# Altium schematic symbol library Connector_Audio.SchLib: 233 symbols (part 3 of 3)
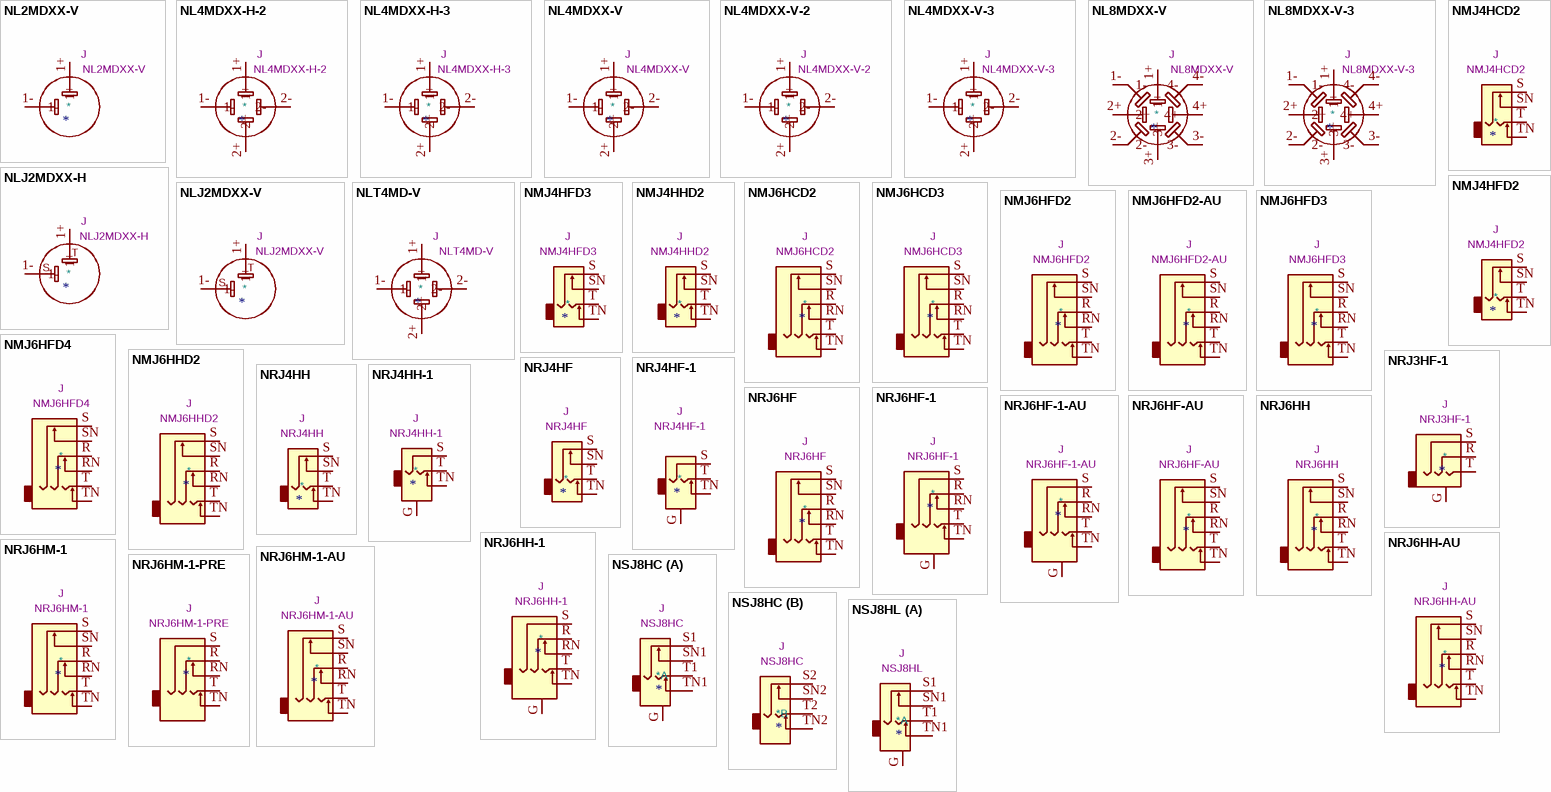
[diagram p9: symbols NL2MDXX-V to NSJ8HL]

## NMJ6HFD2-AU
designator *  value NMJ6HFD2-AU  Reference: J
M Series, 6.35mm (1/4in) stereo jack, switched, full threaded nose, straight PCB pins, gold plated contacts; ki_keywords: audio jack receptacle stereo headphones connector neutrik; ki_fp_filters: Jack*; Footprint: Connector_Audio:Jack_6.35mm_Neutrik_NMJ6HFD2-AU_Horizontal; Datasheet: https://www.neutrik.com/en/product/nmj6hfd2-au; Description_: M Series, 6.35mm (1/4in) stereo jack, switched, full threaded nose, straight PCB pins, gold plated contacts
pins: R, RN, S, SN, T, TN

## NMJ6HFD3
designator *  value NMJ6HFD3  Reference: J
M Series, 6.35mm (1/4in) stereo jack, switched, with full threaded nose and offset PCB pins; ki_keywords: audio jack receptacle stereo headphones connector neutrik; ki_fp_filters: Jack*; Footprint: Connector_Audio:Jack_6.35mm_Neutrik_NMJ6HFD3_Horizontal; Datasheet: https://www.neutrik.com/en/product/nmj6hfd3; Description_: M Series, 6.35mm (1/4in) stereo jack, switched, with full threaded nose and offset PCB pins
pins: R, RN, S, SN, T, TN

## NMJ6HFD4
designator *  value NMJ6HFD4  Reference: J
Obsolete: M Series, 6.35mm (1/4in) stereo jack, switched, with full threaded nose and fishtail PCB pins; ki_keywords: audio jack receptacle stereo headphones connector neutrik; ki_fp_filters: Jack*; Footprint: Connector_Audio:Jack_6.35mm_Neutrik_NMJ6HFD4_Horizontal; Datasheet: https://www.neutrik.com/en/product/nmj6hfd4; Description_: Obsolete: M Series, 6.35mm (1/4in) stereo jack, switched, with full threaded nose and fishtail PCB pins
pins: R, RN, S, SN, T, TN

## NMJ6HHD2
designator *  value NMJ6HHD2  Reference: J
M Series, 6.35mm (1/4in) stereo jack, switched, with half threaded nose and offset PCB pins; ki_keywords: audio jack receptacle stereo headphones connector neutrik; ki_fp_filters: Jack*; Footprint: Connector_Audio:Jack_6.35mm_Neutrik_NMJ6HHD2_Horizontal; Datasheet: https://www.neutrik.com/en/product/nmj6hhd2; Description_: M Series, 6.35mm (1/4in) stereo jack, switched, with half threaded nose and offset PCB pins
pins: R, RN, S, SN, T, TN

## NRJ3HF-1
designator *  value NRJ3HF-1  Reference: J
Slim Jacks, 6.35mm (1/4in) stereo jack, unswitched, fully threaded nose, sleeve contact/front panel connection; ki_keywords: audio jack receptacle stereo headphones phones TRS connector neutrik; ki_fp_filters: Jack*; Footprint: Connector_Audio:Jack_6.35mm_Neutrik_NRJ3HF-1_Horizontal; Datasheet: https://www.neutrik.com/en/product/nrj3hf-1; Description_: Slim Jacks, 6.35mm (1/4in) stereo jack, unswitched, fully threaded nose, sleeve contact/front panel connection
pins: G, R, S, T

## NRJ4HF
designator *  value NRJ4HF  Reference: J
Slim Jacks, 6.35mm (1/4in) mono jack, switched, fully threaded nose; ki_keywords: audio jack dual receptacle mono headphones phone TS connector neutrik; ki_fp_filters: Jack*; Footprint: Connector_Audio:Jack_6.35mm_Neutrik_NRJ4HF_Horizontal; Datasheet: https://www.neutrik.com/en/product/nrj4hf; Description_: Slim Jacks, 6.35mm (1/4in) mono jack, switched, fully threaded nose
pins: S, SN, T, TN

## NRJ4HF-1
designator *  value NRJ4HF-1  Reference: J
Slim Jacks, 6.35mm (1/4in) mono jack, switched, fully threaded nose, sleeve contact/front panel connection; ki_keywords: audio jack receptacle stereo headphones phones TRS connector neutrik; ki_fp_filters: Jack*; Footprint: Connector_Audio:Jack_6.35mm_Neutrik_NRJ4HF-1_Horizontal; Datasheet: https://www.neutrik.com/en/product/nrj4hf-1; Description_: Slim Jacks, 6.35mm (1/4in) mono jack, switched, fully threaded nose, sleeve contact/front panel connection
pins: G, S, T, TN

## NRJ4HH
designator *  value NRJ4HH  Reference: J
Slim Jacks, 6.35mm (1/4in) mono jack, switched, half threaded nose; ki_keywords: audio jack receptacle mono headphones phone TS connector neutrik; ki_fp_filters: Jack*; Footprint: Connector_Audio:Jack_6.35mm_Neutrik_NRJ4HH_Horizontal; Datasheet: https://www.neutrik.com/en/product/nrj4hh; Description_: Slim Jacks, 6.35mm (1/4in) mono jack, switched, half threaded nose
pins: S, SN, T, TN

## NRJ4HH-1
designator *  value NRJ4HH-1  Reference: J
Slim Jacks, 6.35mm (1/4in) mono jack, switched, half threaded nose, sleeve contact/front panel connection; ki_keywords: audio jack receptacle mono headphones phone TS connector neutrik; ki_fp_filters: Jack*; Footprint: Connector_Audio:Jack_6.35mm_Neutrik_NRJ4HH-1_Horizontal; Datasheet: https://www.neutrik.com/en/product/nrj4hh-1; Description_: Slim Jacks, 6.35mm (1/4in) mono jack, switched, half threaded nose, sleeve contact/front panel connection
pins: G, S, T, TN

## NRJ6HF
designator *  value NRJ6HF  Reference: J
Slim Jacks, 6.35mm (1/4in) stereo jack, switched, fully threaded nose; ki_keywords: audio jack receptacle stereo headphones connector neutrik; ki_fp_filters: Jack*; Footprint: Connector_Audio:Jack_6.35mm_Neutrik_NRJ6HF_Horizontal; Datasheet: https://www.neutrik.com/en/product/nrj6hf; Description_: Slim Jacks, 6.35mm (1/4in) stereo jack, switched, fully threaded nose
pins: R, RN, S, SN, T, TN

## NRJ6HF-1
designator *  value NRJ6HF-1  Reference: J
Slim Jacks, 6.35mm (1/4in) stereo jack, switched, fully threaded nose, sleeve contact/front panel connection; ki_keywords: audio jack receptacle stereo headphones phones TRS connector neutrik; ki_fp_filters: Jack*; Footprint: Connector_Audio:Jack_6.35mm_Neutrik_NRJ6HF-1_Horizontal; Datasheet: https://www.neutrik.com/en/product/nrj6hf-1; Description_: Slim Jacks, 6.35mm (1/4in) stereo jack, switched, fully threaded nose, sleeve contact/front panel connection
pins: G, R, RN, S, T, TN

## NRJ6HF-1-AU
designator *  value NRJ6HF-1-AU  Reference: J
Slim Jacks, 6.35mm (1/4in) stereo jack, switched, gold plated contacts, fully threaded nose, sleeve contact/front panel connection; ki_keywords: audio jack receptacle stereo headphones phones TRS connector neutrik; ki_fp_filters: Jack*; Footprint: Connector_Audio:Jack_6.35mm_Neutrik_NRJ6HF-1-AU_Horizontal; Datasheet: https://www.neutrik.com/en/product/nrj6hf-1-au; Description_: Slim Jacks, 6.35mm (1/4in) stereo jack, switched, gold plated contacts, fully threaded nose, sleeve contact/front panel connection
pins: G, R, RN, S, T, TN

## NRJ6HF-AU
designator *  value NRJ6HF-AU  Reference: J
Slim Jacks, 6.35mm (1/4in) stereo jack, switched, gold plated contacts, fully threaded nose; ki_keywords: audio jack receptacle stereo headphones connector neutrik; ki_fp_filters: Jack*; Footprint: Connector_Audio:Jack_6.35mm_Neutrik_NRJ6HF-AU_Horizontal; Datasheet: https://www.neutrik.com/en/product/nrj6hf-au; Description_: Slim Jacks, 6.35mm (1/4in) stereo jack, switched, gold plated contacts, fully threaded nose
pins: R, RN, S, SN, T, TN

## NRJ6HH
designator *  value NRJ6HH  Reference: J
Slim Jacks, 6.35mm (1/4in) stereo jack, switched, half threaded nose; ki_keywords: audio jack receptacle stereo headphones connector neutrik; ki_fp_filters: Jack*; Footprint: Connector_Audio:Jack_6.35mm_Neutrik_NRJ6HH_Horizontal; Datasheet: https://www.neutrik.com/en/product/nrj6hh; Description_: Slim Jacks, 6.35mm (1/4in) stereo jack, switched, half threaded nose
pins: R, RN, S, SN, T, TN

## NRJ6HH-1
designator *  value NRJ6HH-1  Reference: J
Slim Jacks, 6.35mm (1/4in) stereo jack, switched, half threaded nose, sleeve contact/front panel connection; ki_keywords: audio jack receptacle stereo headphones phones TRS connector neutrik; ki_fp_filters: Jack*; Footprint: Connector_Audio:Jack_6.35mm_Neutrik_NRJ6HH-1_Horizontal; Datasheet: https://www.neutrik.com/en/product/nrj6hh-1; Description_: Slim Jacks, 6.35mm (1/4in) stereo jack, switched, half threaded nose, sleeve contact/front panel connection
pins: G, R, RN, S, T, TN

## NRJ6HH-AU
designator *  value NRJ6HH-AU  Reference: J
Slim Jacks, 6.35mm (1/4in) stereo jack, switched, gold plated contacts, half threaded nose; ki_keywords: audio jack receptacle stereo headphones connector neutrik; ki_fp_filters: Jack*; Footprint: Connector_Audio:Jack_6.35mm_Neutrik_NRJ6HH-AU_Horizontal; Datasheet: https://www.neutrik.com/en/product/nrj6hh-au; Description_: Slim Jacks, 6.35mm (1/4in) stereo jack, switched, gold plated contacts, half threaded nose
pins: R, RN, S, SN, T, TN

## NRJ6HM-1
designator *  value NRJ6HM-1  Reference: J
Slim Jacks, 6.35mm (1/4in) stereo jack, metal nose with efficient chassis ground connection, T+R+S normalling contact; ki_keywords: audio jack receptacle stereo headphones connector neutrik; ki_fp_filters: Jack*; Footprint: Connector_Audio:Jack_6.35mm_Neutrik_NRJ6HM-1_Horizontal; Datasheet: https://www.neutrik.com/en/product/nrj6hm-1; Description_: Slim Jacks, 6.35mm (1/4in) stereo jack, metal nose with efficient chassis ground connection, T+R+S normalling contact
pins: R, RN, S, SN, T, TN

## NRJ6HM-1-AU
designator *  value NRJ6HM-1-AU  Reference: J
Slim Jacks, 6.35mm (1/4in) stereo jack, metal nose, gold plated contacts, efficient chassis ground connection, T+R+S normalling contact; ki_keywords: audio jack receptacle stereo headphones connector neutrik; ki_fp_filters: Jack*; Footprint: Connector_Audio:Jack_6.35mm_Neutrik_NRJ6HM-1-AU_Horizontal; Datasheet: https://www.neutrik.com/en/product/nrj6hm-1-au; Description_: Slim Jacks, 6.35mm (1/4in) stereo jack, metal nose, gold plated contacts, efficient chassis ground connection, T+R+S normalling contact
pins: R, RN, S, SN, T, TN

## NRJ6HM-1-PRE
designator *  value NRJ6HM-1-PRE  Reference: J
Slim Jacks, 6.35mm (1/4in) stereo jack, metal nose, efficient chassis ground connection, T+R normalling contact; ki_keywords: audio jack receptacle stereo headphones phones TRS connector neutrik; ki_fp_filters: Jack*; Footprint: Connector_Audio:Jack_6.35mm_Neutrik_NRJ6HM-1-PRE_Horizontal; Datasheet: https://www.neutrik.com/en/product/nrj6hm-1-pre; Description_: Slim Jacks, 6.35mm (1/4in) stereo jack, metal nose, efficient chassis ground connection, T+R normalling contact
pins: R, RN, S, T, TN

## NSJ8HC
designator *  value NSJ8HC  Reference: J
Obsolete: Stacking Jacks, Mono dual jack, full nose; ki_keywords: audio jack dual receptacle mono headphones phone TS connector neutrik; ki_fp_filters: Jack*; Footprint: Connector_Audio:Jack_6.35mm_Neutrik_NSJ8HC_Horizontal; Datasheet: https://www.neutrik.com/en/product/nsj8hc; Description_: Obsolete: Stacking Jacks, Mono dual jack, full nose
part A pins: G, S1, SN1, T1, TN1
part B pins: S2, SN2, T2, TN2

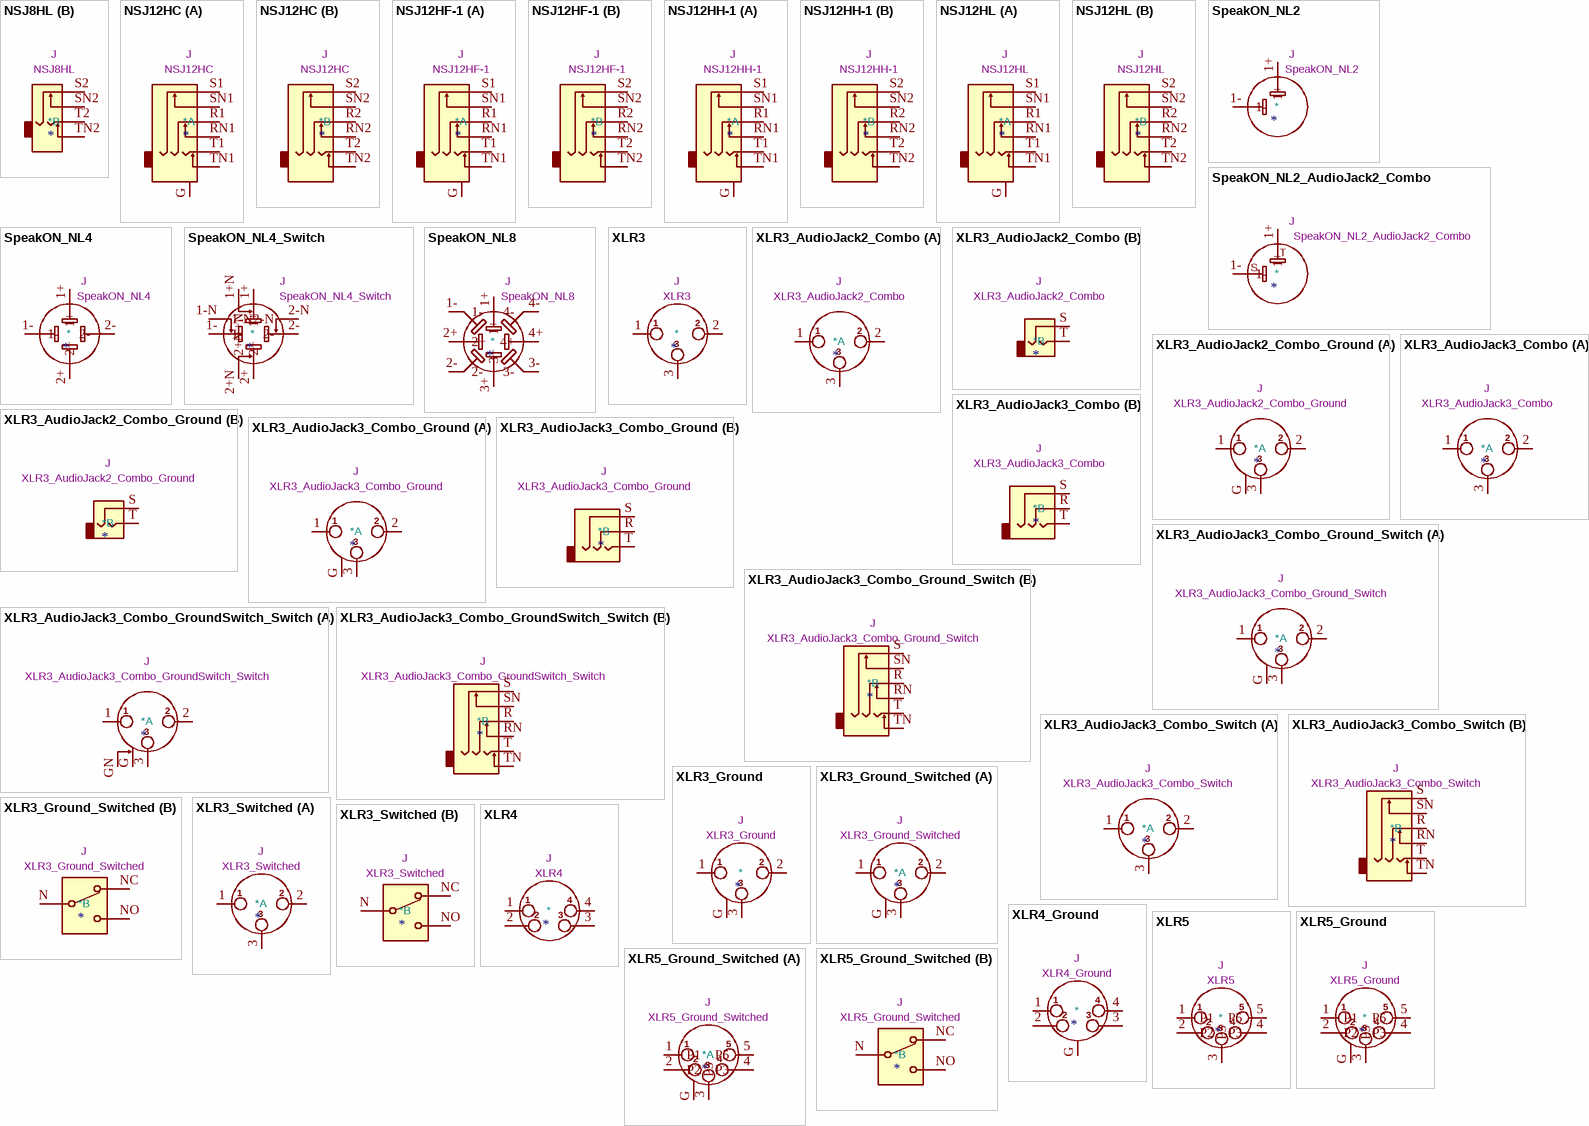
[diagram p6: symbols NSJ8HL to XLR5_Ground_Switched]

## NSJ8HL
designator *  value NSJ8HL  Reference: J
Obsolete: Stacking Jacks, Mono dual jack, quick fix nose; ki_keywords: audio jack dual receptacle mono headphones phone TS connector neutrik; ki_fp_filters: Jack*; Footprint: Connector_Audio:Jack_6.35mm_Neutrik_NSJ8HL_Horizontal; Datasheet: https://www.neutrik.com/en/product/nsj8hl; Description_: Obsolete: Stacking Jacks, Mono dual jack, quick fix nose
part A pins: G, S1, SN1, T1, TN1
part B pins: S2, SN2, T2, TN2

## NSJ12HC
designator *  value NSJ12HC  Reference: J
Stacking Jacks, Stereo dual jack, full nose; ki_keywords: audio jack dual receptacle stereo headphones phones TRS connector neutrik; ki_fp_filters: Jack*; Footprint: Connector_Audio:Jack_6.35mm_Neutrik_NSJ12HC_Horizontal; Datasheet: https://www.neutrik.com/en/product/nsj12hc; Description_: Stacking Jacks, Stereo dual jack, full nose
part A pins: G, R1, RN1, S1, SN1, T1, TN1
part B pins: R2, RN2, S2, SN2, T2, TN2

## NSJ12HF-1
designator *  value NSJ12HF-1  Reference: J
Stacking Jacks, Stereo dual jack, full threaded nose; ki_keywords: audio jack dual receptacle stereo headphones phones TRS connector neutrik; ki_fp_filters: Jack*; Footprint: Connector_Audio:Jack_6.35mm_Neutrik_NSJ12HF-1_Horizontal; Datasheet: https://www.neutrik.com/en/product/nsj12hf-1; Description_: Stacking Jacks, Stereo dual jack, full threaded nose
part A pins: G, R1, RN1, S1, SN1, T1, TN1
part B pins: R2, RN2, S2, SN2, T2, TN2

## NSJ12HH-1
designator *  value NSJ12HH-1  Reference: J
Obsolete: Stacking Jacks, Stereo dual jack, half threaded nose; ki_keywords: audio jack dual receptacle stereo headphones phones TRS connector neutrik; ki_fp_filters: Jack*; Footprint: Connector_Audio:Jack_6.35mm_Neutrik_NSJ12HH-1_Horizontal; Datasheet: https://www.neutrik.com/en/product/nsj12hh-1; Description_: Obsolete: Stacking Jacks, Stereo dual jack, half threaded nose
part A pins: G, R1, RN1, S1, SN1, T1, TN1
part B pins: R2, RN2, S2, SN2, T2, TN2

## NSJ12HL
designator *  value NSJ12HL  Reference: J
Obsolete: Stacking Jacks, Stereo dual jack, quick fix nose; ki_keywords: audio jack dual receptacle stereo headphones phones TRS connector neutrik; ki_fp_filters: Jack*; Footprint: Connector_Audio:Jack_6.35mm_Neutrik_NSJ12HL_Horizontal; Datasheet: https://www.neutrik.com/en/product/nsj12hl; Description_: Obsolete: Stacking Jacks, Stereo dual jack, quick fix nose
part A pins: G, R1, RN1, S1, SN1, T1, TN1
part B pins: R2, RN2, S2, SN2, T2, TN2

## SpeakON_NL2
designator *  value SpeakON_NL2  Reference: J
speakON Connector, Male or Female, NL2; ki_fp_filters: Jack*speakON*; Datasheet: http://www.neutrik.com/en/speakon/; Description_: speakON Connector, Male or Female, NL2; ki_keywords: speakon connector
pins: 1+, 1-

## SpeakON_NL2_AudioJack2_Combo
designator *  value SpeakON_NL2_AudioJack2_Combo  Reference: J
speakON NL2 (Male or Female) and Audio Jack (Mono / TS) Combo Connector; ki_keywords: speakon connector; ki_fp_filters: Jack*speakON*; Datasheet: http://www.neutrik.com/en/speakon/; Description_: speakON NL2 (Male or Female) and Audio Jack (Mono / TS) Combo Connector
pins: 1+, 1-
text: T; S

## SpeakON_NL4
designator *  value SpeakON_NL4  Reference: J
speakON Connector, Male or Female, NL4; ki_fp_filters: Jack*speakON*; Datasheet: http://www.neutrik.com/en/speakon/; Description_: speakON Connector, Male or Female, NL4; ki_keywords: speakon connector
pins: 1+, 1-, 2+, 2-

## SpeakON_NL4_Switch
designator *  value SpeakON_NL4_Switch  Reference: J
speakON Connector, Male or Female, NL4, Switched Pins; ki_fp_filters: Jack*speakON*; Datasheet: http://www.neutrik.com/en/speakon/; Description_: speakON Connector, Male or Female, NL4, Switched Pins; ki_keywords: speakon connector
pins: 1+, 1+N, 1-, 1-N, 2+, 2+N, 2-, 2-N

## SpeakON_NL8
designator *  value SpeakON_NL8  Reference: J
speakON Connector, Male or Female, NL8; ki_fp_filters: Jack*speakON*; Datasheet: http://www.neutrik.com/en/speakon/; Description_: speakON Connector, Male or Female, NL8; ki_keywords: speakon connector
pins: 1+, 1-, 2+, 2-, 3+, 3-, 4+, 4-

## XLR3
designator *  value XLR3  Reference: J
XLR Connector, Male or Female, 3 Pins; ki_fp_filters: Jack*XLR*; Datasheet: ~; Description_: XLR Connector, Male or Female, 3 Pins; ki_keywords: xlr connector
pins: 1, 2, 3

## XLR3_AudioJack2_Combo
designator *  value XLR3_AudioJack2_Combo  Reference: J
XLR (Male or Female) and Audio Jack (Mono / TS) Combo Connector, Discrete Ground Pin; ki_keywords: xlr connector; ki_fp_filters: Jack*XLR*6.35mm*; Datasheet: ~; Description_: XLR (Male or Female) and Audio Jack (Mono / TS) Combo Connector, Discrete Ground Pin
part A pins: 1, 2, 3
part B pins: S, T

## XLR3_AudioJack2_Combo_Ground
designator *  value XLR3_AudioJack2_Combo_Ground  Reference: J
XLR (Male or Female) and Audio Jack (Mono / TS) Combo Connector, Discrete Ground Pin; ki_keywords: xlr connector; ki_fp_filters: Jack*XLR*6.35mm*; Datasheet: ~; Description_: XLR (Male or Female) and Audio Jack (Mono / TS) Combo Connector, Discrete Ground Pin
part A pins: 1, 2, 3, G
part B pins: S, T

## XLR3_AudioJack3_Combo
designator *  value XLR3_AudioJack3_Combo  Reference: J
XLR (Male or Female) and Audio Jack (Stereo / TRS) Combo Connector, Discrete Ground Pin; ki_keywords: xlr connector; ki_fp_filters: Jack*XLR*6.35mm*; Datasheet: ~; Description_: XLR (Male or Female) and Audio Jack (Stereo / TRS) Combo Connector, Discrete Ground Pin
part A pins: 1, 2, 3
part B pins: R, S, T

## XLR3_AudioJack3_Combo_Ground
designator *  value XLR3_AudioJack3_Combo_Ground  Reference: J
XLR (Male or Female) and Audio Jack (Stereo / TRS) Combo Connector, Discrete Ground Pin; ki_keywords: xlr connector; ki_fp_filters: Jack*XLR*6.35mm*; Datasheet: ~; Description_: XLR (Male or Female) and Audio Jack (Stereo / TRS) Combo Connector, Discrete Ground Pin
part A pins: 1, 2, 3, G
part B pins: R, S, T

## XLR3_AudioJack3_Combo_Ground_Switch
designator *  value XLR3_AudioJack3_Combo_Ground_Switch  Reference: J
XLR (Male or Female) and Audio Jack (Stereo / TRS, Switched Poles (Normalling)) Combo Connector, Discrete Ground Pin; ki_keywords: xlr connector; ki_fp_filters: Jack*XLR*6.35mm*; Datasheet: ~; Description_: XLR (Male or Female) and Audio Jack (Stereo / TRS, Switched Poles (Normalling)) Combo Connector, Discrete Ground Pin
part A pins: 1, 2, 3, G
part B pins: R, RN, S, SN, T, TN

## XLR3_AudioJack3_Combo_GroundSwitch_Switch
designator *  value XLR3_AudioJack3_Combo_GroundSwitch_Switch  Reference: J
XLR (Male or Female) and Audio Jack (Stereo / TRS, Switched Poles (Normalling)) Combo Connector, Discrete Switched Ground Pin; ki_keywords: xlr connector; ki_fp_filters: Jack*XLR*6.35mm*; Datasheet: ~; Description_: XLR (Male or Female) and Audio Jack (Stereo / TRS, Switched Poles (Normalling)) Combo Connector, Discrete Switched Ground Pin
part A pins: 1, 2, 3, G, GN
part B pins: R, RN, S, SN, T, TN

## XLR3_AudioJack3_Combo_Switch
designator *  value XLR3_AudioJack3_Combo_Switch  Reference: J
XLR (Male or Female) and Audio Jack (Stereo / TRS, Switched Poles (Normalling)) Combo Connector; ki_keywords: xlr connector; ki_fp_filters: Jack*XLR*6.35mm*; Datasheet: ~; Description_: XLR (Male or Female) and Audio Jack (Stereo / TRS, Switched Poles (Normalling)) Combo Connector
part A pins: 1, 2, 3
part B pins: R, RN, S, SN, T, TN

## XLR3_Ground
designator *  value XLR3_Ground  Reference: J
XLR Connector, Male or Female, 3 Pins, Discrete Ground Pin; ki_fp_filters: Jack*XLR*; Datasheet: ~; Description_: XLR Connector, Male or Female, 3 Pins, Discrete Ground Pin; ki_keywords: xlr connector
pins: 1, 2, 3, G

## XLR3_Ground_Switched
designator *  value XLR3_Ground_Switched  Reference: J
XLR Connector, Male or Female, 3 Pins, Discrete Ground Pin, SPDT Switch; ki_fp_filters: Jack*XLR*; Datasheet: ~; Description_: XLR Connector, Male or Female, 3 Pins, Discrete Ground Pin, SPDT Switch; ki_keywords: xlr connector
part A pins: 1, 2, 3, G
part B pins: N, NC, NO

## XLR3_Switched
designator *  value XLR3_Switched  Reference: J
XLR Connector, Male or Female, 3 Pins, SPDT Switch; ki_fp_filters: Jack*XLR*; Datasheet: ~; Description_: XLR Connector, Male or Female, 3 Pins, SPDT Switch; ki_keywords: xlr connector
part A pins: 1, 2, 3
part B pins: N, NC, NO

## XLR4
designator *  value XLR4  Reference: J
XLR Connector, Male or Female, 4 Pins; ki_fp_filters: Jack*XLR*; Datasheet: ~; Description_: XLR Connector, Male or Female, 4 Pins; ki_keywords: xlr connector
pins: 1, 2, 3, 4

## XLR4_Ground
designator *  value XLR4_Ground  Reference: J
XLR Connector, Male or Female, 4 Pins, Discrete Ground Pin; ki_fp_filters: Jack*XLR*; Datasheet: ~; Description_: XLR Connector, Male or Female, 4 Pins, Discrete Ground Pin; ki_keywords: xlr connector
pins: 1, 2, 3, 4, G

## XLR5
designator *  value XLR5  Reference: J
XLR Connector, Male or Female, 5 Pins; ki_fp_filters: Jack*XLR*; Datasheet: ~; Description_: XLR Connector, Male or Female, 5 Pins; ki_keywords: xlr connector
pins: 1 P1, 2 P2, 3 P3, 4 P3, 5 P5

## XLR5_Ground
designator *  value XLR5_Ground  Reference: J
XLR Connector, Male or Female, 5 Pins, Discrete Ground Pin; ki_fp_filters: Jack*XLR*; Datasheet: ~; Description_: XLR Connector, Male or Female, 5 Pins, Discrete Ground Pin; ki_keywords: xlr connector
pins: 1 P1, 2 P2, 3 P3, 4 P3, 5 P5, G

## XLR5_Ground_Switched
designator *  value XLR5_Ground_Switched  Reference: J
XLR Connector, Male or Female, 5 Pins, Discrete Ground Pin, SPDT Switch; ki_fp_filters: Jack*XLR*; Datasheet: ~; Description_: XLR Connector, Male or Female, 5 Pins, Discrete Ground Pin, SPDT Switch; ki_keywords: xlr connector
part A pins: 1 P1, 2 P2, 3 P3, 4 P3, 5 P5, G
part B pins: N, NC, NO

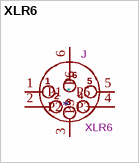
[diagram p7: symbol XLR6]

## XLR6
designator *  value XLR6  Reference: J
XLR Connector, Male or Female, 6 Pins; ki_fp_filters: Jack*XLR*; Datasheet: ~; Description_: XLR Connector, Male or Female, 6 Pins; ki_keywords: xlr connector
pins: 1 P1, 2 P2, 3 P3, 4 P3, 5 P5, 6 P6